# Altium footprint library ISL6236A_DEMO.PcbLib: 12 footprints
Each footprint in its own frame and in the unit in brackets; x right, y up, seen from the top. Pads: shape width x height; smd on the part's side, far side on the other; paste and mask are expansions set on the pad; w line width, h text height; cw(c..) or ccw(c..) is an arc to the next point about the centre after c.
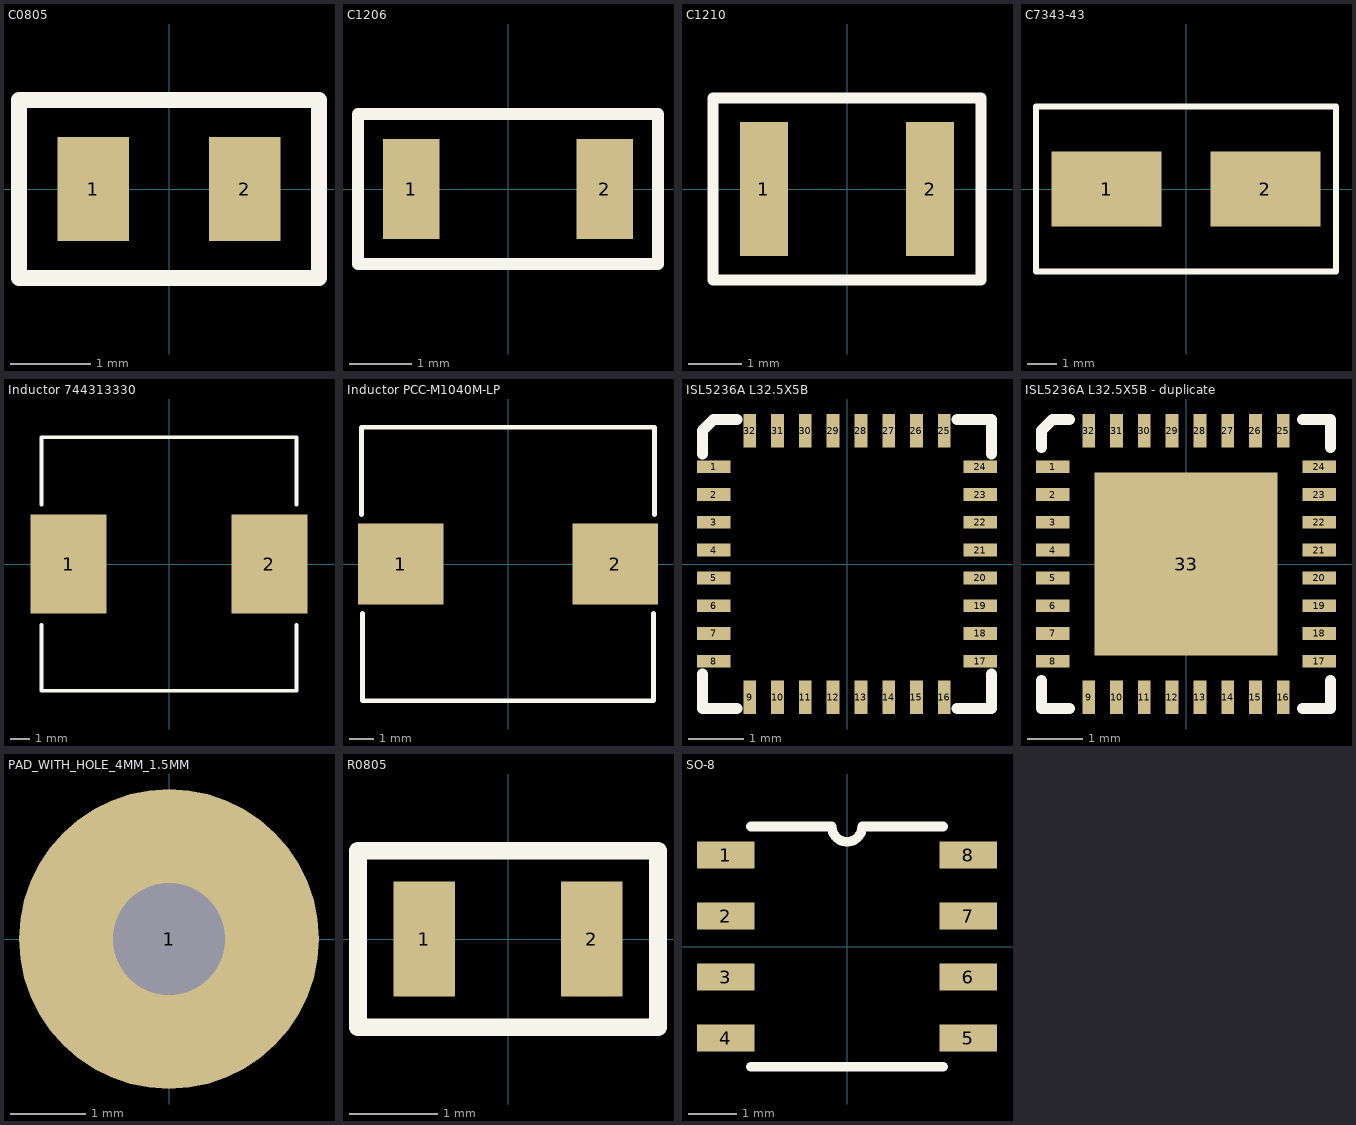
[diagram p0: the footprints below, top view; thin cyan lines are the x and y axes]

## C0805 [mm]
pads (2):
  rect 0.9x1.3 smd: 1(-0.95,0) 2(0.95,0)
Top Overlay:
  lines w0.2: -1.88,-1.118 1.88,-1.118 1.88,1.118 -1.88,1.118 -1.88,0.154 -1.88,-1.118

## C1206 [mm]
pads (2):
  rect 0.9x1.6 smd: 1(-1.55,0) 2(1.55,0)
Top Overlay:
  lines w0.2: -2.4,-1.2 2.4,-1.2 2.4,1.2 -2.4,1.2 -2.4,-1.2

## C1210 [mm]
pads (2):
  rect 0.9x2.5 smd: 1(-1.55,0) 2(1.55,0)
Top Overlay:
  lines w0.2: -2.5,-1.7 2.5,-1.7 2.5,1.7 -2.5,1.7 -2.5,-1.7

## C7343-43 [mm]
pads (2):
  rect 3.75x2.55 smd: 1(-2.7,0) 2(2.7,0)
Top Overlay:
  lines w0.2: -5.1,-2.8 5.1,-2.8 5.1,2.8 -5.1,2.8 -5.1,-2.8

## Inductor 744313330 [mm]
pads (2):
  rect 3.85x5 smd: 1(-5.075,0) 2(5.075,0)
Top Overlay:
  lines w0.2: -6.45,-3.077 -6.45,-6.4 6.45,-6.4 6.45,-3.077 ; -6.45,3 -6.45,6.4 6.45,6.4 6.45,3

## Inductor PCC-M1040M-LP [mm]
pads (2):
  rect 3.439x3.254 smd: 1(-4.313,0) 2(4.313,0)
Top Overlay:
  lines w0.2: -5.9,2 -5.9,5.5 ; -5.85,-2 -5.85,-5.5 5.85,-5.5 5.85,-2 ; -5.85,5.5 5.85,5.5 ; 5.9,2 5.9,5.5

## ISL5236A L32.5X5B [mm]
pads (32):
  rect 0.6x0.23 smd: 1(-2.4,1.75) 2(-2.4,1.25) 3(-2.4,0.75) 4(-2.4,0.25) 5(-2.4,-0.25) 6(-2.4,-0.75) 7(-2.4,-1.25) 8(-2.4,-1.75) 17(2.4,-1.75) 18(2.4,-1.25) 19(2.4,-0.75) 20(2.4,-0.25) 21(2.4,0.25) 22(2.4,0.75) 23(2.4,1.25) 24(2.4,1.75)
  rect 0.23x0.6 smd: 9(-1.75,-2.4) 10(-1.25,-2.4) 11(-0.75,-2.4) 12(-0.25,-2.4) 13(0.25,-2.4) 14(0.75,-2.4) 15(1.25,-2.4) 16(1.75,-2.4) 25(1.75,2.4) 26(1.25,2.4) 27(0.75,2.4) 28(0.25,2.4) 29(-0.25,2.4) 30(-0.75,2.4) 31(-1.25,2.4) 32(-1.75,2.4)
Top Overlay:
  lines w0.2: -2.6,-1.98 -2.6,-2.6 -1.98,-2.6 ; -2.6,1.98 -2.6,2.4 -2.4,2.6 -1.98,2.6 ; 1.98,-2.6 2.6,-2.6 2.6,-1.98 ; 1.98,2.6 2.6,2.6 2.6,1.98

## ISL5236A L32.5X5B - duplicate [mm]
pads (33):
  rect 0.6x0.23 smd mask+0.051: 1(-2.4,1.75) 2(-2.4,1.25) 3(-2.4,0.75) 4(-2.4,0.25) 5(-2.4,-0.25) 6(-2.4,-0.75) 7(-2.4,-1.25) 8(-2.4,-1.75) 17(2.4,-1.75) 18(2.4,-1.25) 19(2.4,-0.75) 20(2.4,-0.25) 21(2.4,0.25) 22(2.4,0.75) 23(2.4,1.25) 24(2.4,1.75)
  rect 0.23x0.6 smd mask+0.051: 9(-1.75,-2.4) 10(-1.25,-2.4) 11(-0.75,-2.4) 12(-0.25,-2.4) 13(0.25,-2.4) 14(0.75,-2.4) 15(1.25,-2.4) 16(1.75,-2.4) 25(1.75,2.4) 26(1.25,2.4) 27(0.75,2.4) 28(0.25,2.4) 29(-0.25,2.4) 30(-0.75,2.4) 31(-1.25,2.4) 32(-1.75,2.4)
  rect 3.3x3.3 smd mask+0.051: 33(0,0)
Top Overlay:
  lines w0.2: -2.6,-2.1 -2.6,-2.6 -2.1,-2.6 ; -2.6,2.1 -2.6,2.4 -2.4,2.6 -2.1,2.6 ; 2.1,-2.6 2.6,-2.6 2.6,-2.1 ; 2.1,2.6 2.6,2.6 2.6,2.1

## PAD_WITH_HOLE_4MM_1.5MM [mm]
pads (1):
  round 4 hole 1.5: 1(0,0)

## PCBComponent_1 [mm]

## R0805 [mm]
pads (2):
  rect 0.7x1.3 smd: 1(-0.95,0) 2(0.95,0)
Top Overlay:
  lines w0.2: -1.7,-1 -1.7,1 1.7,1 1.7,-1 -1.7,-1

## SO-8 [mm]
pads (8):
  rect 1.194x0.559 smd: 1(-2.527,1.905) 2(-2.527,0.635) 3(-2.527,-0.635) 4(-2.527,-1.905) 5(2.527,-1.905) 6(2.527,-0.635) 7(2.527,0.635) 8(2.527,1.905)
Top Overlay:
  lines w0.2: -2,-2.5 2,-2.5 ; -2,2.5 -0.318,2.5 ccw(c0,2.5) 0.318,2.5 2,2.5